# Altium schematic symbol library USB-3.0-TYPE-A-TF.SCHLIB: 1 symbol
Pins are listed as number, name and electrical type; pins without a type are passive.

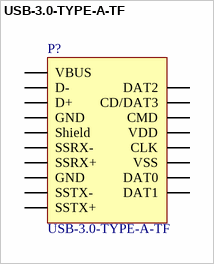
[diagram p0: symbol USB-3.0-TYPE-A-TF]

## USB-3.0-TYPE-A-TF
designator P?
footprint USB-3.0-TYPE-A-TF
pins: 1 VBUS, 2 D-, 3 D+, 4 GND, 5 SSRX-, 6 SSRX+, 7 GND, 8 SSTX-, 9 SSTX+, PG Shield, T1 DAT2, T2 CD/DAT3, T3 CMD, T4 VDD, T5 CLK, T6 VSS, T7 DAT0, T8 DAT1